# Altium schematic symbol library LAB_COATING_MACHINE.dpf.SCHLIB: 17 symbols
Pins are listed as number, name and electrical type; pins without a type are passive.

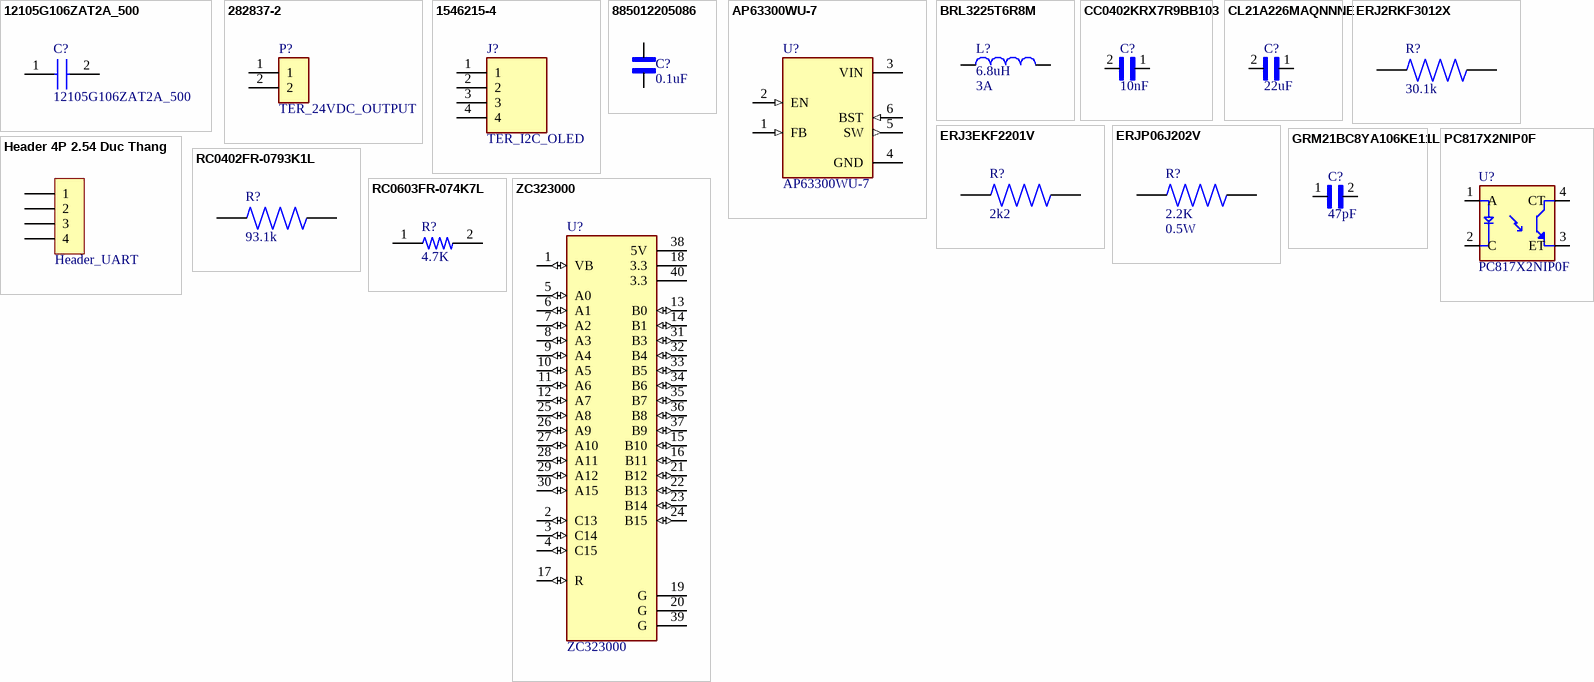
[diagram p0: symbols 12105G106ZAT2A_500 to ZC323000]

## 12105G106ZAT2A_500
designator C?
Capacitor; Manufacturer_Name: AVX; Manufacturer_Part_Number: 12105G106ZAT2A/500; Datasheet Link: http://datasheets.avx.com/Y5V.pdf; Height: 2.9mm
footprint CAPC3225X290N
pins: 1, 2

## 282837-2
designator P?  Comment_1: TER_24VDC_OUTPUT  (hidden comment: 282837-2)
Connector Terminal Blocks Receptacle 2 Position 5.08mm Solder Straight Thru-Hole 13.5A/Contact; MF: TE Connectivity; Check_prices: https://www.snapeda.com/parts/282837-2/TE+Connectivity+AMP+Connectors/view-part/?ref=eda; Value: *; Availability: In Stock; MP: 282837-2; Price: None; Package: None; SnapEDA_Link: https://www.snapeda.com/parts/282837-2/TE+Connectivity+AMP+Connectors/view-part/?ref=snap; Purchase-URL: https://pricing.snapeda.com/search/part/282837-2/?ref=eda
footprint TE_282837-2
pins: 1, 2

## 1546215-4
designator J?  Comment_1: TER_I2C_OLED  (hidden comment: 1546215-4)
Conn Terminal Block 4 POS 2.54mm Solder ST Thru-Hole; MF: TE Connectivity; Check_prices: https://www.snapeda.com/parts/1546215-4/TE+Connectivity+AMP+Connectors/view-part/?ref=eda; Value: *; Availability: In Stock; MP: 1546215-4; Price: None; Package: None; SnapEDA_Link: https://www.snapeda.com/parts/1546215-4/TE+Connectivity+AMP+Connectors/view-part/?ref=snap; Purchase-URL: https://pricing.snapeda.com/search/part/1546215-4/?ref=eda
footprint TE_1546215-4
pins: 1, 2, 3, 4

## 885012205086
designator C?, comment 0.1uF
<b> WCAP-CSGP Ceramic Capacitors <br> <br> <br><b>Characteristics </b><br> </b><br>Multilayer Ceramic Chip Capacitor <br>Recommended soldering:Reflow, for 0603 and 0805 wave soldering is also allowed <br>Operating temperature:-55 Â°C to +125 Â°C; <br>Ceramic characteristics: Class I - NPO ; Class II -X7R, X5R <br>High performance ceramic <br>High capacitance stability <br>Minimal aging  <br>Termination:Cu/Ni/Sn <br>   <br><a href="http://katalog.we-online.de/media/images/eisos/WCAP-CSGP_pf2.jpg" title="Enlarge picture"> <img src="http://katalog.we-online.de/media/thumbs2/eisos/thb_WCAP-CSGP_pf2.jpg" width="320"></a><p> Details see: <a href="http://katalog.we-online.de/en/pbs/WCAP-CSGP-0402?">http://katalog.we-online.de/en/pbs/WCAP-CSGP-0402? </a><p>Created:  2015-01-28 <br>2015 (C) Wurth Elektronik; MP: 885012205086; Package: None; Price: None; Value: *; Availability: Unavailable
footprint WCAP-CSGP_885012205086
pins: 1, 2

## AP63300WU-7
designator U?
Buck Switching Regulator IC Positive Adjustable 0.8V 1 Output 3A SOT-23-6 Thin, TSOT-23-6; MF: Diodes Incorporated; SnapEDA_Link: https://www.snapeda.com/parts/AP63300WU-7/Diodes%20Inc./view-part/4221814/?ref=snap; Availability: Unavailable; MP: AP63300WU-7; DigiKey-Purchase-URL: https://snapeda.com/shop?store=DigiKey&id=4221814; Price: None; Value: *; Package: SOT-23-6 Diodes Incorporated
footprint SOT95P280X100-6N
pins: 1 FB (in), 2 EN (in), 3 VIN (power), 4 GND (power), 5 SW (out), 6 BST (in)

## BRL3225T6R8M
designator L?, comment 6.8uH
INDUCTOR, 6.8UH, 1.05A, +20%; MP: BRL3225T6R8M; Package: None; Price: None; Value: *; Availability: Unavailable
footprint INDC3225X170N
pins: 1, 2
text: 3A

## CC0402KRX7R9BB103
designator C?, comment 10nF
10000 pF Â±10% 50V Ceramic Capacitor X7R 0402 (1005 Metric); MF: Yageo; MP: CC0402KRX7R9BB103; Purchase-URL: https://pricing.snapeda.com/search/part/CC0402KRX7R9BB103/?ref=eda; Package: 0402 Yageo; Value: *; Check_prices: https://www.snapeda.com/parts/CC0402KRX7R9BB103/Yageo/view-part/?ref=eda; SnapEDA_Link: https://www.snapeda.com/parts/CC0402KRX7R9BB103/Yageo/view-part/?ref=snap; Availability: In Stock; Price: None
footprint CAPC1005X55N
pins: 1, 2

## CL21A226MAQNNNE
designator C?, comment 22uF
22ÂµF Â±20% 25V Ceramic Capacitor X5R 0805 (2012 Metric); MF: Samsung; MP: CL21A226MAQNNNE; SnapEDA_Link: https://www.snapeda.com/parts/CL21A226MAQNNNE/Samsung%20Electro-Mechanics/view-part/620487/?ref=snap; Check_prices: https://www.snapeda.com/parts/CL21A226MAQNNNE/Samsung%20Electro-Mechanics/view-part/620487/?ref=eda; Digi-Key_Part_Number: 1276-2908-1-ND; Value: *; Package: 0805 Samsung; Purchase-URL: https://pricing.snapeda.com/search/part/CL21A226MAQNNNE/?ref=eda
footprint CAPC2012X140N
pins: 1, 2

## ERJ2RKF3012X
designator R?, comment 30.1k
MP: ERJ2RKF3012X; Price: None; Package: None; Value: *; Availability: Unavailable
footprint RES_ERJ2RKF3012X
pins: 1, 2

## ERJ3EKF2201V
designator R?, comment 2k2
2.2 kOhms 1% 0.1W, 1/10W Chip Resistor 0603 (1608 Metric) Automotive AEC-Q200 Thick Film; MP: ERJ-3EKF2201V; MF: Panasonic; Value: *; Package: 1608-2 Panasonic; Check_prices: https://www.snapeda.com/parts/ERJ-3EKF2201V/Panasonic%20Electronic%20Components/view-part/371927/?ref=eda; Digi-Key_Part_Number: P2.20KHCT-ND; SnapEDA_Link: https://www.snapeda.com/parts/ERJ-3EKF2201V/Panasonic%20Electronic%20Components/view-part/371927/?ref=snap
footprint RES_ERJ3EKF2201V
pins: 1, 2

## ERJP06J202V
designator R?, comment 2.2K
MP: ERJP06J202V; Value: *; Package: None; Price: None; Availability: Unavailable
footprint RES_ERJP06J202V
pins: 1, 2
text: 0.5W

## GRM21BC8YA106KE11L
designator C?, comment 47pF
SMD Capacitor X6S_EIA_ with Capacitance: 10uF Tol. 10%. Rated Voltage: 35Vdc; MP: GRM21BC8YA106KE11L; MF: Murata; Digi-Key_Purchase_URL: https://www.digikey.com/product-detail/en/murata-electronics/GRM21BC8YA106KE11L/490-10504-1-ND/5026432?utm_source=snapeda&utm_medium=aggregator&utm_campaign=symbol; SnapEDA_Link: https://www.snapeda.com/parts/GRM21BC8YA106KE11L/Murata/view-part/4383596/?ref=snap; Package: 2012 Murata; Value: *; Digi-Key_Part_Number: 490-10504-1-ND
footprint CAPC2012X145N
pins: 1, 2

## Header 4P 2.54 Duc Thang
designator H?, comment Header_UART
Cắm; Ten_Linh_Kien: Header 4P XH2.54-4P Đực Thẳng; Don_Vi: Con; Ma_Hang: MH001285; Chung_Loai: Cắm
footprint XH2.54M-4
pins: 1, 2, 3, 4

## PC817X2NIP0F
designator U?
Optoisolator Transistor Output 5000Vrms 1 Channel 4-SMD; MF: Sharp Microelectronics; Value: *; SnapEDA_Link: https://www.snapeda.com/parts/PC817X2NIP0F/Sharp+Microelectronics/view-part/?ref=snap; Purchase-URL: https://pricing.snapeda.com/search/part/PC817X2NIP0F/?ref=eda; Check_prices: https://www.snapeda.com/parts/PC817X2NIP0F/Sharp+Microelectronics/view-part/?ref=eda; Digi-Key_Part_Number: 425-2192-2-ND; Package: SMD-4 Sharp; MP: PC817X2NIP0F
footprint SOT254P975X400-4N
pins: 1 A, 2 C, 3 ET, 4 CT

## RC0402FR-0793K1L
designator R?, comment 93.1k
Res Thick Film 0402 93.1K Ohm 1% 1/16W Â±100ppm/Â°C Molded SMD Paper T/R; MP: RC0402FR-0793K1L; Package: None; Price: None; Value: *; Availability: Unavailable
footprint RESC1005X40N
pins: 1, 2

## RC0603FR-074K7L
designator R?, comment 4.7K
4.7 kOhms Â±1% 0.1W, 1/10W Chip Resistor 0603 _1608 Metric_ Moisture Resistant Thick Film; MP: RC0603FR-074K7L; MF: Yageo; Value: *; SnapEDA_Link: https://www.snapeda.com/parts/RC0603FR-074K7L/Yageo/view-part/473520/?ref=snap; Availability: Unavailable; Price: None; Package: 0603 Yageo
footprint RESC1607X60N
pins: 1, 2

## ZC323000
designator U?
STM32F103C8T6 ARM STM32 Minimum System Development Board Module For Arduino; Package: None; MP: ZC323000; Value: *; Availability: Unavailable; Price: None
footprint MODULE_ZC323000
pins: 1 VB (io), 2 C13 (io), 3 C14 (io), 4 C15 (io), 5 A0 (io), 6 A1 (io), 7 A2 (io), 8 A3 (io), 9 A4 (io), 10 A5 (io), 11 A6 (io), 12 A7 (io), 13 B0 (io), 14 B1 (io), 15 B10 (io), 16 B11 (io), 17 R (io), 18 3.3 (power), 19 G (power), 20 G (power), 21 B12 (io), 22 B13 (io), 23 B14 (io), 24 B15 (io), 25 A8 (io), 26 A9 (io), 27 A10 (io), 28 A11 (io), 29 A12 (io), 30 A15 (io), 31 B3 (io), 32 B4 (io), 33 B5 (io), 34 B6 (io), 35 B7 (io), 36 B8 (io), 37 B9 (io), 38 5V (power), 39 G (power), 40 3.3 (power)